# EAGLE library part GY-63 (library gy-63)
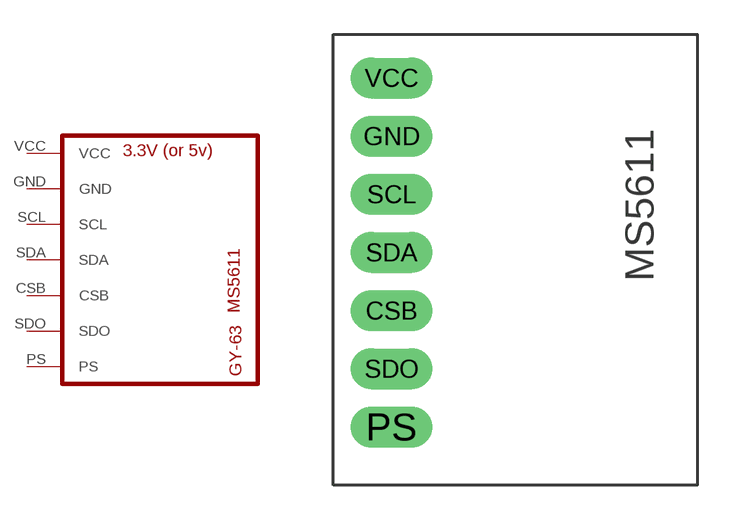
[diagram p0: symbol with the pads of GY-63; footprint GY-63]

Designator prefix U

## GY-63MS5611  [GY-63]
CSB  CSB
GND  GND
PS  PS
SCL  SCL
SDA  SDA
SDO  SDO
VCC  VCC

## Footprint GY-63 (pad centres in mm)
drill 0.8 pad 1.778 long: CSB -8.89,-1.27; GND -8.89,6.35; PS -8.89,-6.35; SCL -8.89,3.81; SDA -8.89,1.27; SDO -8.89,-3.81; VCC -8.89,8.89